# Altium footprint library B105misc.PcbLib: 1 footprints
Each footprint in its own frame and in the unit in brackets; x right, y up, seen from the top. Pads: shape width x height; smd on the part's side, far side on the other; paste and mask are expansions set on the pad; w line width, h text height; cw(c..) or ccw(c..) is an arc to the next point about the centre after c.
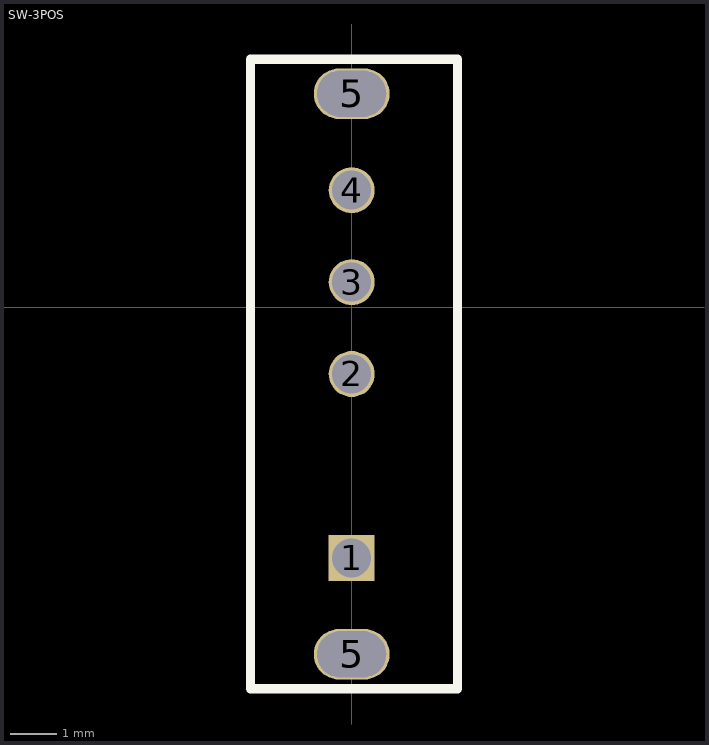
[diagram p0: the footprint, top view; thin cyan lines are the x and y axes]

## SW-3POS [mm]
pads (6):
  rect 1x1 hole 0.85: 1(0,-5.45)
  round 1 hole 0.85: 2(0,-1.45) 3(0,0.55) 4(0,2.55)
  oval 1.65x1.1 hole 1 slot 1.5 at 0 deg: 5(0,-7.55) 5(0,4.65)
Top Overlay:
  lines w0.2: -2.2,-8.3 -2.2,5.4 2.3,5.4 2.3,-8.3 -2.2,-8.3
3D body: height 4.7, standoff -3.8, extent -2.15,-7.75 6.15,4.85